# Altium footprint library identifier.PcbLib: 1 footprints
Each footprint in its own frame and in the unit in brackets; x right, y up, seen from the top. Pads: shape width x height; smd on the part's side, far side on the other; paste and mask are expansions set on the pad; w line width, h text height; cw(c..) or ccw(c..) is an arc to the next point about the centre after c.

## BODY_IDENT [mm]
3D body: height 0.5, standoff 0, extent -1.651,-3.683 0.508,-0.635
3D body: height 1, standoff 0, extent -3.048,0.127 -0.762,1.905